# Altium footprint library Capacitors SMD.PcbLib: 96 footprints (part 5 of 6)
Each footprint in its own frame and in the unit in brackets; x right, y up, seen from the top. Pads: shape width x height; smd on the part's side, far side on the other; paste and mask are expansions set on the pad; w line width, h text height; cw(c..) or ccw(c..) is an arc to the next point about the centre after c.
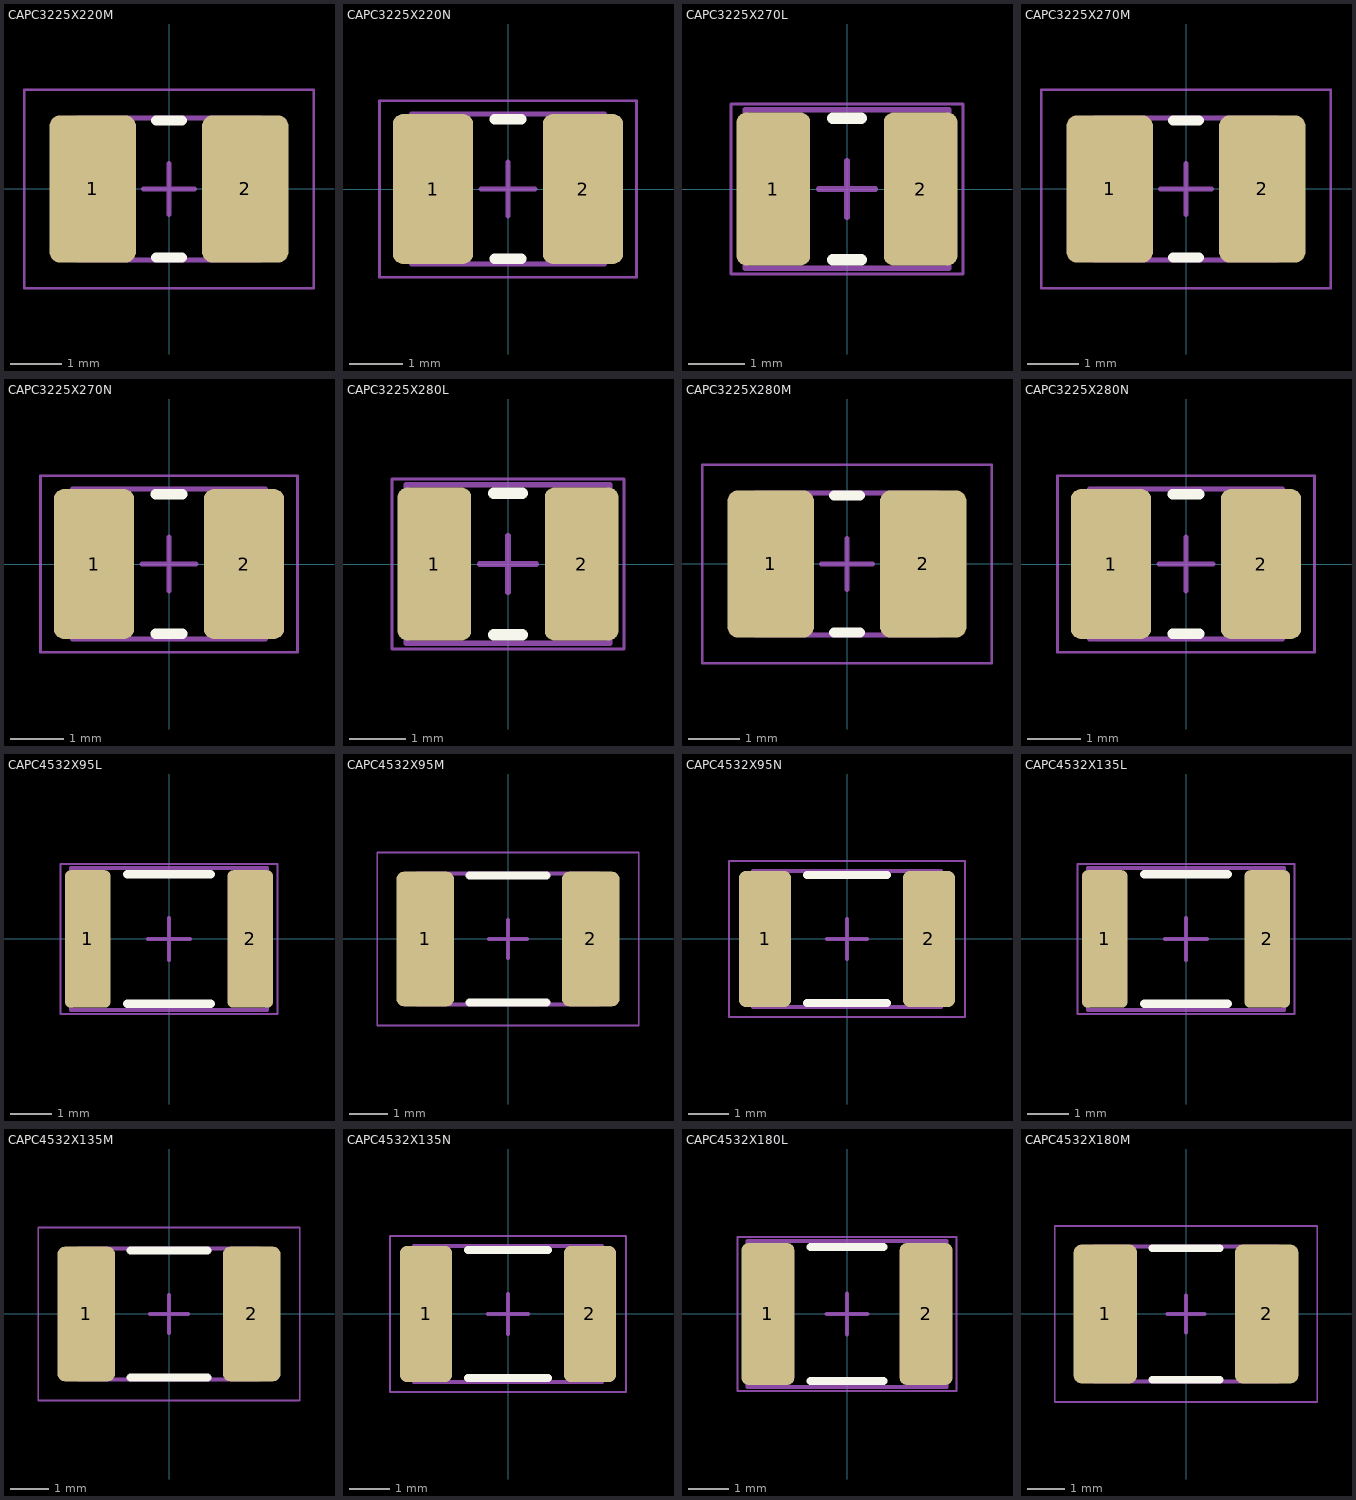
[diagram p4: the footprints below, top view; thin cyan lines are the x and y axes]

## CAPC3225X220M [mm] "Chip Capacitor, EIA 1210, Metric 3225, Body 3.20x2.50mm, IPC Low Density"
height 2.2
pads (2):
  rrect25% 1.7x2.9 smd paste+0 mask+0.05: 1(-1.5,0) 2(1.5,0)
Top Overlay:
  lines w0.2: -0.25,-1.35 0.25,-1.35 ; -0.25,1.35 0.25,1.35
Top Component Outline:
  lines w0.1: -1.8,-1.4 -1.8,1.4 1.8,1.4 1.8,-1.4 -1.8,-1.4
Top Courtyard:
  lines w0.05: -2.85,-1.95 2.85,-1.95 2.85,1.95 -2.85,1.95 -2.85,-1.95
Top Component Center:
  lines w0.1: -0.5,0 0.5,0 ; 0,-0.5 0,0.5
Top Designator:
  text ".Designator" at -4.04,-0.476 h2
Top Assembly:
  lines w0.1: -1.8,-1.4 1.8,-1.4 1.8,1.4 -1.8,1.4 -1.8,-1.4
  text ".Designator" at -4.04,-0.476 h2
3D body "CAPC3225X220N.step": height 2.2, standoff 0, extent -1.8,-1.4 1.8,1.4

## CAPC3225X220N [mm] "Chip Capacitor, EIA 1210, Metric 3225, Body 3.20x2.50mm, IPC Medium Density"
height 2.2
pads (2):
  rrect25% 1.5x2.8 smd paste+0 mask+0.05: 1(-1.4,0) 2(1.4,0)
Top Overlay:
  lines w0.2: -0.25,-1.3 0.25,-1.3 ; -0.25,1.3 0.25,1.3
Top Component Outline:
  lines w0.1: -1.8,-1.4 -1.8,1.4 1.8,1.4 1.8,-1.4 -1.8,-1.4
Top Courtyard:
  lines w0.05: -2.4,-1.65 -2.4,1.65 2.4,1.65 2.4,-1.65 -2.4,-1.65
Top Component Center:
  lines w0.1: -0.5,0 0.5,0 ; 0,-0.5 0,0.5
Top Designator:
  text ".Designator" at -4.04,-0.476 h2
Top Assembly:
  lines w0.1: -1.8,-1.4 -1.8,1.4 1.8,1.4 1.8,-1.4 -1.8,-1.4
  text ".Designator" at -4.04,-0.476 h2
3D body "CAPC3225X220N.step": height 2.2, standoff 0, extent -1.8,-1.4 1.8,1.4

## CAPC3225X270L [mm] "Chip Capacitor, EIA 1210, Metric 3225, Body 3.20x2.50mm, IPC High Density"
height 2.7
pads (2):
  rrect25% 1.3x2.7 smd paste+0 mask+0.05: 1(-1.3,0) 2(1.3,0)
Top Overlay:
  lines w0.2: -0.25,-1.25 0.25,-1.25 ; -0.25,1.25 0.25,1.25
Top Component Outline:
  lines w0.1: -1.8,-1.4 -1.8,1.4 1.8,1.4 1.8,-1.4 -1.8,-1.4
Top Courtyard:
  lines w0.05: -2.05,-1.5 -2.05,1.5 2.05,1.5 2.05,-1.5 -2.05,-1.5
Top Component Center:
  lines w0.1: -0.5,0 0.5,0 ; 0,-0.5 0,0.5
Top Designator:
  text ".Designator" at -4.04,-0.476 h2
Top Assembly:
  lines w0.1: -1.8,-1.4 -1.8,1.4 1.8,1.4 1.8,-1.4 -1.8,-1.4
  text ".Designator" at -4.04,-0.476 h2
3D body "CAPC3225X270N.step": height 2.7, standoff 0, extent -1.8,-1.4 1.8,1.4

## CAPC3225X270M [mm] "Chip Capacitor, EIA 1210, Metric 3225, Body 3.20x2.50mm, IPC Low Density"
height 2.7
pads (2):
  rrect25% 1.7x2.9 smd paste+0 mask+0.05: 1(-1.5,0) 2(1.5,0)
Top Overlay:
  lines w0.2: -0.25,-1.35 0.25,-1.35 ; -0.25,1.35 0.25,1.35
Top Component Outline:
  lines w0.1: -1.8,-1.4 -1.8,1.4 1.8,1.4 1.8,-1.4 -1.8,-1.4
Top Courtyard:
  lines w0.05: -2.85,-1.95 2.85,-1.95 2.85,1.95 -2.85,1.95 -2.85,-1.95
Top Component Center:
  lines w0.1: -0.5,0 0.5,0 ; 0,-0.5 0,0.5
Top Designator:
  text ".Designator" at -4.04,-0.476 h2
Top Assembly:
  lines w0.1: -1.8,-1.4 1.8,-1.4 1.8,1.4 -1.8,1.4 -1.8,-1.4
  text ".Designator" at -4.04,-0.476 h2
3D body "CAPC3225X270N.step": height 2.7, standoff 0, extent -1.8,-1.4 1.8,1.4

## CAPC3225X270N [mm] "Chip Capacitor, EIA 1210, Metric 3225, Body 3.20x2.50mm, IPC Medium Density"
height 2.7
pads (2):
  rrect25% 1.5x2.8 smd paste+0 mask+0.05: 1(-1.4,0) 2(1.4,0)
Top Overlay:
  lines w0.2: -0.25,-1.3 0.25,-1.3 ; -0.25,1.3 0.25,1.3
Top Component Outline:
  lines w0.1: -1.8,-1.4 1.8,-1.4 1.8,1.4 -1.8,1.4 -1.8,-1.4
Top Courtyard:
  lines w0.05: -2.4,-1.65 2.4,-1.65 2.4,1.65 -2.4,1.65 -2.4,-1.65
Top Component Center:
  lines w0.1: -0.5,0 0.5,0 ; 0,-0.5 0,0.5
Top Designator:
  text ".Designator" at -4.04,-0.476 h2
Top Assembly:
  lines w0.1: -1.8,-1.4 1.8,-1.4 1.8,1.4 -1.8,1.4 -1.8,-1.4
  text ".Designator" at -4.04,-0.476 h2
3D body "CAPC3225X270N.step": height 2.7, standoff 0, extent -1.8,-1.4 1.8,1.4

## CAPC3225X280L [mm] "Chip Capacitor, EIA 1210, Metric 3225, Body 3.20x2.50mm, IPC High Density"
height 2.8
pads (2):
  rrect25% 1.3x2.7 smd paste+0 mask+0.05: 1(-1.3,0) 2(1.3,0)
Top Overlay:
  lines w0.2: -0.25,-1.25 0.25,-1.25 ; -0.25,1.25 0.25,1.25
Top Component Outline:
  lines w0.1: -1.8,-1.4 -1.8,1.4 1.8,1.4 1.8,-1.4 -1.8,-1.4
Top Courtyard:
  lines w0.05: -2.05,-1.5 -2.05,1.5 2.05,1.5 2.05,-1.5 -2.05,-1.5
Top Component Center:
  lines w0.1: -0.5,0 0.5,0 ; 0,-0.5 0,0.5
Top Designator:
  text ".Designator" at -4.04,-0.476 h2
Top Assembly:
  lines w0.1: -1.8,-1.4 -1.8,1.4 1.8,1.4 1.8,-1.4 -1.8,-1.4
  text ".Designator" at -4.04,-0.476 h2
3D body "CAPC3225X280N.step": height 2.8, standoff 0, extent -1.8,-1.4 1.8,1.4

## CAPC3225X280M [mm] "Chip Capacitor, EIA 1210, Metric 3225, Body 3.20x2.50mm, IPC Low Density"
height 2.8
pads (2):
  rrect25% 1.7x2.9 smd paste+0 mask+0.05: 1(-1.5,0) 2(1.5,0)
Top Overlay:
  lines w0.2: -0.25,-1.35 0.25,-1.35 ; -0.25,1.35 0.25,1.35
Top Component Outline:
  lines w0.1: -1.8,-1.4 1.8,-1.4 1.8,1.4 -1.8,1.4 -1.8,-1.4
Top Courtyard:
  lines w0.05: -2.85,-1.95 2.85,-1.95 2.85,1.95 -2.85,1.95 -2.85,-1.95
Top Component Center:
  lines w0.1: -0.5,0 0.5,0 ; 0,-0.5 0,0.5
Top Designator:
  text ".Designator" at -4.04,-0.476 h2
Top Assembly:
  lines w0.1: -1.8,-1.4 1.8,-1.4 1.8,1.4 -1.8,1.4 -1.8,-1.4
  text ".Designator" at -4.04,-0.476 h2
3D body "CAPC3225X280N.step": height 2.8, standoff 0, extent -1.8,-1.4 1.8,1.4

## CAPC3225X280N [mm] "Chip Capacitor, EIA 1210, Metric 3225, Body 3.20x2.50mm, IPC Medium Density"
height 2.8
pads (2):
  rrect25% 1.5x2.8 smd paste+0 mask+0.05: 1(-1.4,0) 2(1.4,0)
Top Overlay:
  lines w0.2: -0.25,-1.3 0.25,-1.3 ; -0.25,1.3 0.25,1.3
Top Component Outline:
  lines w0.1: -1.8,-1.4 1.8,-1.4 1.8,1.4 -1.8,1.4 -1.8,-1.4
Top Courtyard:
  lines w0.05: -2.4,-1.65 2.4,-1.65 2.4,1.65 -2.4,1.65 -2.4,-1.65
Top Component Center:
  lines w0.1: -0.5,0 0.5,0 ; 0,-0.5 0,0.5
Top Designator:
  text ".Designator" at -4.04,-0.476 h2
Top Assembly:
  lines w0.1: -1.8,-1.4 1.8,-1.4 1.8,1.4 -1.8,1.4 -1.8,-1.4
  text ".Designator" at -4.04,-0.476 h2
3D body "CAPC3225X280N.step": height 2.8, standoff 0, extent -1.8,-1.4 1.8,1.4

## CAPC4532X95L [mm] "Chip Capacitor, EIA 1812, Metric 4532, Body 4.50x3.20mm, IPC High Density"
height 0.95
pads (2):
  rrect25% 1.1x3.3 smd paste+0 mask+0.05: 1(-1.95,0) 2(1.95,0)
Top Overlay:
  lines w0.2: -1,-1.55 1,-1.55 ; -1,1.55 1,1.55
Top Component Outline:
  lines w0.1: -2.35,-1.7 -2.35,1.7 2.35,1.7 2.35,-1.7 -2.35,-1.7
Top Courtyard:
  lines w0.05: -2.6,-1.8 -2.6,1.8 2.6,1.8 2.6,-1.8 -2.6,-1.8
Top Component Center:
  lines w0.1: -0.5,0 0.5,0 ; 0,-0.5 0,0.5
Top Designator:
  text ".Designator" at -4.04,-0.476 h2
Top Assembly:
  lines w0.1: -2.35,-1.7 -2.35,1.7 2.35,1.7 2.35,-1.7 -2.35,-1.7
  text ".Designator" at -4.04,-0.476 h2
3D body "CAPC4532X95N.step": height 0.95, standoff 0, extent -2.35,-1.7 2.35,1.7

## CAPC4532X95M [mm] "Chip Capacitor, EIA 1812, Metric 4532, Body 4.50x3.20mm, IPC Low Density"
height 0.95
pads (2):
  rrect25% 1.5x3.5 smd paste+0 mask+0.05: 1(-2.15,0) 2(2.15,0)
Top Overlay:
  lines w0.2: -1,-1.65 1,-1.65 ; -1,1.65 1,1.65
Top Component Outline:
  lines w0.1: -2.35,-1.7 -2.35,1.7 2.35,1.7 2.35,-1.7 -2.35,-1.7
Top Courtyard:
  lines w0.05: -3.4,-2.25 3.4,-2.25 3.4,2.25 -3.4,2.25 -3.4,-2.25
Top Component Center:
  lines w0.1: -0.5,0 0.5,0 ; 0,-0.5 0,0.5
Top Designator:
  text ".Designator" at -4.04,-0.476 h2
Top Assembly:
  lines w0.1: -2.35,-1.7 2.35,-1.7 2.35,1.7 -2.35,1.7 -2.35,-1.7
  text ".Designator" at -4.04,-0.476 h2
3D body "CAPC4532X95N.step": height 0.95, standoff 0, extent -2.35,-1.7 2.35,1.7

## CAPC4532X95N [mm] "Chip Capacitor, EIA 1812, Metric 4532, Body 4.50x3.20mm, IPC Medium Density"
height 0.95
pads (2):
  rrect25% 1.3x3.4 smd paste+0 mask+0.05: 1(-2.05,0) 2(2.05,0)
Top Overlay:
  lines w0.2: -1,-1.6 1,-1.6 ; -1,1.6 1,1.6
Top Component Outline:
  lines w0.1: -2.35,-1.7 2.35,-1.7 2.35,1.7 -2.35,1.7 -2.35,-1.7
Top Courtyard:
  lines w0.05: -2.95,-1.95 2.95,-1.95 2.95,1.95 -2.95,1.95 -2.95,-1.95
Top Component Center:
  lines w0.1: -0.5,0 0.5,0 ; 0,-0.5 0,0.5
Top Designator:
  text ".Designator" at -4.04,-0.476 h2
Top Assembly:
  lines w0.1: -2.35,-1.7 2.35,-1.7 2.35,1.7 -2.35,1.7 -2.35,-1.7
  text ".Designator" at -4.04,-0.476 h2
3D body "CAPC4532X95N.step": height 0.95, standoff 0, extent -2.35,-1.7 2.35,1.7

## CAPC4532X135L [mm] "Chip Capacitor, EIA 1812, Metric 4532, Body 4.50x3.20mm, IPC High Density"
height 1.35
pads (2):
  rrect25% 1.1x3.3 smd paste+0 mask+0.05: 1(-1.95,0) 2(1.95,0)
Top Overlay:
  lines w0.2: -1,-1.55 1,-1.55 ; -1,1.55 1,1.55
Top Component Outline:
  lines w0.1: -2.35,-1.7 2.35,-1.7 2.35,1.7 -2.35,1.7 -2.35,-1.7
Top Courtyard:
  lines w0.05: -2.6,-1.8 2.6,-1.8 2.6,1.8 -2.6,1.8 -2.6,-1.8
Top Component Center:
  lines w0.1: -0.5,0 0.5,0 ; 0,-0.5 0,0.5
Top Designator:
  text ".Designator" at -4.04,-0.476 h2
Top Assembly:
  lines w0.1: -2.35,-1.7 2.35,-1.7 2.35,1.7 -2.35,1.7 -2.35,-1.7
  text ".Designator" at -4.04,-0.476 h2
3D body "CAPC4532X135N.step": height 1.35, standoff 0, extent -2.35,-1.7 2.35,1.7

## CAPC4532X135M [mm] "Chip Capacitor, EIA 1812, Metric 4532, Body 4.50x3.20mm, IPC Low Density"
height 1.35
pads (2):
  rrect25% 1.5x3.5 smd paste+0 mask+0.05: 1(-2.15,0) 2(2.15,0)
Top Overlay:
  lines w0.2: -1,-1.65 1,-1.65 ; -1,1.65 1,1.65
Top Component Outline:
  lines w0.1: -2.35,-1.7 -2.35,1.7 2.35,1.7 2.35,-1.7 -2.35,-1.7
Top Courtyard:
  lines w0.05: -3.4,-2.25 -3.4,2.25 3.4,2.25 3.4,-2.25 -3.4,-2.25
Top Component Center:
  lines w0.1: -0.5,0 0.5,0 ; 0,-0.5 0,0.5
Top Designator:
  text ".Designator" at -4.04,-0.476 h2
Top Assembly:
  lines w0.1: -2.35,-1.7 -2.35,1.7 2.35,1.7 2.35,-1.7 -2.35,-1.7
  text ".Designator" at -4.04,-0.476 h2
3D body "CAPC4532X135N.step": height 1.35, standoff 0, extent -2.35,-1.7 2.35,1.7

## CAPC4532X135N [mm] "Chip Capacitor, EIA 1812, Metric 4532, Body 4.50x3.20mm, IPC Medium Density"
height 1.35
pads (2):
  rrect25% 1.3x3.4 smd paste+0 mask+0.05: 1(-2.05,0) 2(2.05,0)
Top Overlay:
  lines w0.2: -1,-1.6 1,-1.6 ; -1,1.6 1,1.6
Top Component Outline:
  lines w0.1: -2.35,-1.7 2.35,-1.7 2.35,1.7 -2.35,1.7 -2.35,-1.7
Top Courtyard:
  lines w0.05: -2.95,-1.95 2.95,-1.95 2.95,1.95 -2.95,1.95 -2.95,-1.95
Top Component Center:
  lines w0.1: -0.5,0 0.5,0 ; 0,-0.5 0,0.5
Top Designator:
  text ".Designator" at -4.04,-0.476 h2
Top Assembly:
  lines w0.1: -2.35,-1.7 2.35,-1.7 2.35,1.7 -2.35,1.7 -2.35,-1.7
  text ".Designator" at -4.04,-0.476 h2
3D body "CAPC4532X135N.step": height 1.35, standoff 0, extent -2.35,-1.7 2.35,1.7

## CAPC4532X180L [mm] "Chip Capacitor, EIA 1210, Metric 3225, Body 4.50x3.20mm, IPC High Density"
height 1.8
pads (2):
  rrect25% 1.3x3.5 smd paste+0 mask+0.05: 1(-1.95,0) 2(1.95,0)
Top Overlay:
  lines w0.2: -0.9,-1.65 0.9,-1.65 ; -0.9,1.65 0.9,1.65
Top Component Outline:
  lines w0.1: -2.45,-1.8 2.45,-1.8 2.45,1.8 -2.45,1.8 -2.45,-1.8
Top Courtyard:
  lines w0.05: -2.7,-1.9 2.7,-1.9 2.7,1.9 -2.7,1.9 -2.7,-1.9
Top Component Center:
  lines w0.1: -0.5,0 0.5,0 ; 0,-0.5 0,0.5
Top Designator:
  text ".Designator" at -4.04,-0.476 h2
Top Assembly:
  lines w0.1: -2.45,-1.8 2.45,-1.8 2.45,1.8 -2.45,1.8 -2.45,-1.8
  text ".Designator" at -4.04,-0.476 h2
3D body "CAPC4532X180N.step": height 1.8, standoff 0, extent -2.45,-1.8 2.45,1.8

## CAPC4532X180M [mm] "Chip Capacitor, EIA 1210, Metric 3225, Body 4.50x3.20mm, IPC Low Density"
height 1.8
pads (2):
  rrect25% 1.7x3.7 smd paste+0 mask+0.05: 1(-2.15,0) 2(2.15,0)
Top Overlay:
  lines w0.2: -0.9,-1.75 0.9,-1.75 ; -0.9,1.75 0.9,1.75
Top Component Outline:
  lines w0.1: -2.45,-1.8 -2.45,1.8 2.45,1.8 2.45,-1.8 -2.45,-1.8
Top Courtyard:
  lines w0.05: -3.5,-2.35 3.5,-2.35 3.5,2.35 -3.5,2.35 -3.5,-2.35
Top Component Center:
  lines w0.1: -0.5,0 0.5,0 ; 0,-0.5 0,0.5
Top Designator:
  text ".Designator" at -4.04,-0.476 h2
Top Assembly:
  lines w0.1: -2.45,-1.8 2.45,-1.8 2.45,1.8 -2.45,1.8 -2.45,-1.8
  text ".Designator" at -4.04,-0.476 h2
3D body "CAPC4532X180N.step": height 1.8, standoff 0, extent -2.45,-1.8 2.45,1.8